# Altium footprint library Interface_ICs.PcbLib: 1 footprints
Each footprint in its own frame and in the unit in brackets; x right, y up, seen from the top. Pads: shape width x height; smd on the part's side, far side on the other; paste and mask are expansions set on the pad; w line width, h text height; cw(c..) or ccw(c..) is an arc to the next point about the centre after c.
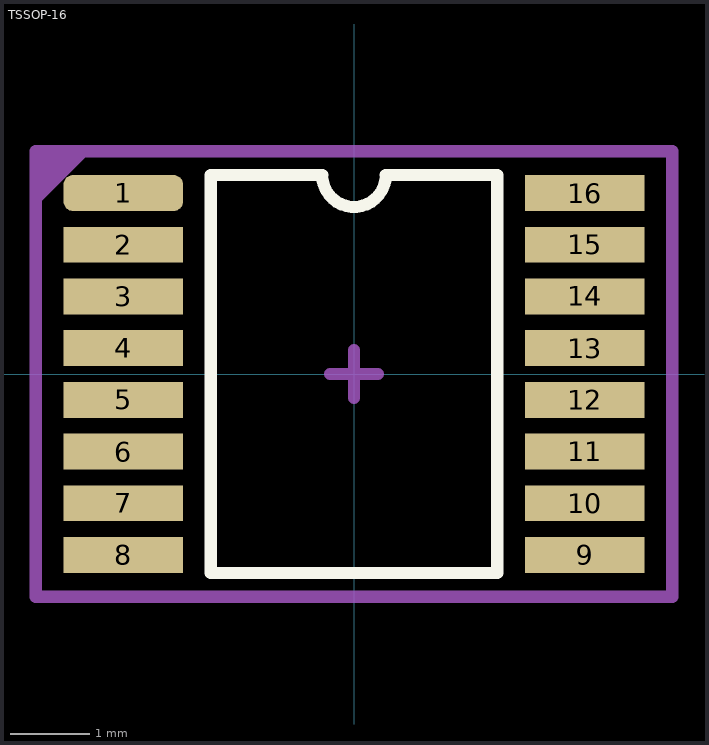
[diagram p0: the footprint, top view; thin cyan lines are the x and y axes]

## TSSOP-16 [mm]
pads (16):
  rrect50% 1.5x0.45 smd mask+0.05: 1(-2.9,2.275)
  rect 1.5x0.45 smd mask+0.05: 2(-2.9,1.625) 3(-2.9,0.975) 4(-2.9,0.325) 5(-2.9,-0.325) 6(-2.9,-0.975) 7(-2.9,-1.625) 8(-2.9,-2.275) 9(2.9,-2.275) 10(2.9,-1.625) 11(2.9,-0.975) 12(2.9,-0.325) 13(2.9,0.325) 14(2.9,0.975) 15(2.9,1.625) 16(2.9,2.275)
Top Overlay:
  lines w0.153: -1.8,-2.5 -1.8,2.5 -0.4,2.5 ccw(c0,2.5) 0.4,2.5 1.8,2.5 1.8,-2.5 -1.8,-2.5
Top Assembly:
  region: -4,2.8 -3.3,2.8 -4,2.1
  lines w0.153: -4,-2.8 4,-2.8 4,2.8 -4,2.8 -4,-2.8
  text "'.Designator'" at -4.532,-0.333 h0.8
Top Courtyard (Mech6):
  lines w0.153: -0.3,0 0.3,0 ; 0,-0.3 0,0.3 ; -4,-2.8 -4,2.8 4,2.8 4,-2.8 -4,-2.8
3D body "TSSOP-16-1.step": height 1.1, standoff 0, extent -3.2,-2.5 3.2,2.5